# Altium schematic symbol library harwin.SchLib: 3 symbols
Pins are listed as number, name and electrical type; pins without a type are passive.

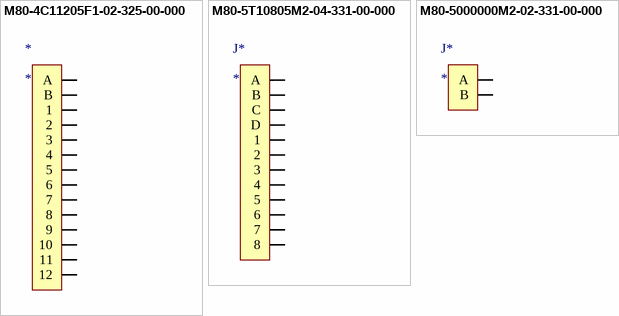
[diagram p0: symbols M80-4C11205F1-02-325-00-000 to M80-5000000M2-02-331-00-000]

## M80-4C11205F1-02-325-00-000
designator *
footprint M80-5T10805M1-02-331-00-000
pins: 1, 2, 3, 4, 5, 6, 7, 8, 9, 10, 11, 12, A, B

## M80-5T10805M2-04-331-00-000
designator J*
footprint M80-5T10805M2-04-331-00-000 (DataMate Connector)
pins: 1, 2, 3, 4, 5, 6, 7, 8, A, B, C, D

## M80-5000000M2-02-331-00-000
designator J*
footprint M80-5000000M2-02-331-00-000 (DataMate Connector)
pins: A, B